# Altium schematic symbol library sim800L_Schlib.SchLib: 15 symbols
Pins are listed as number, name and electrical type; pins without a type are passive.

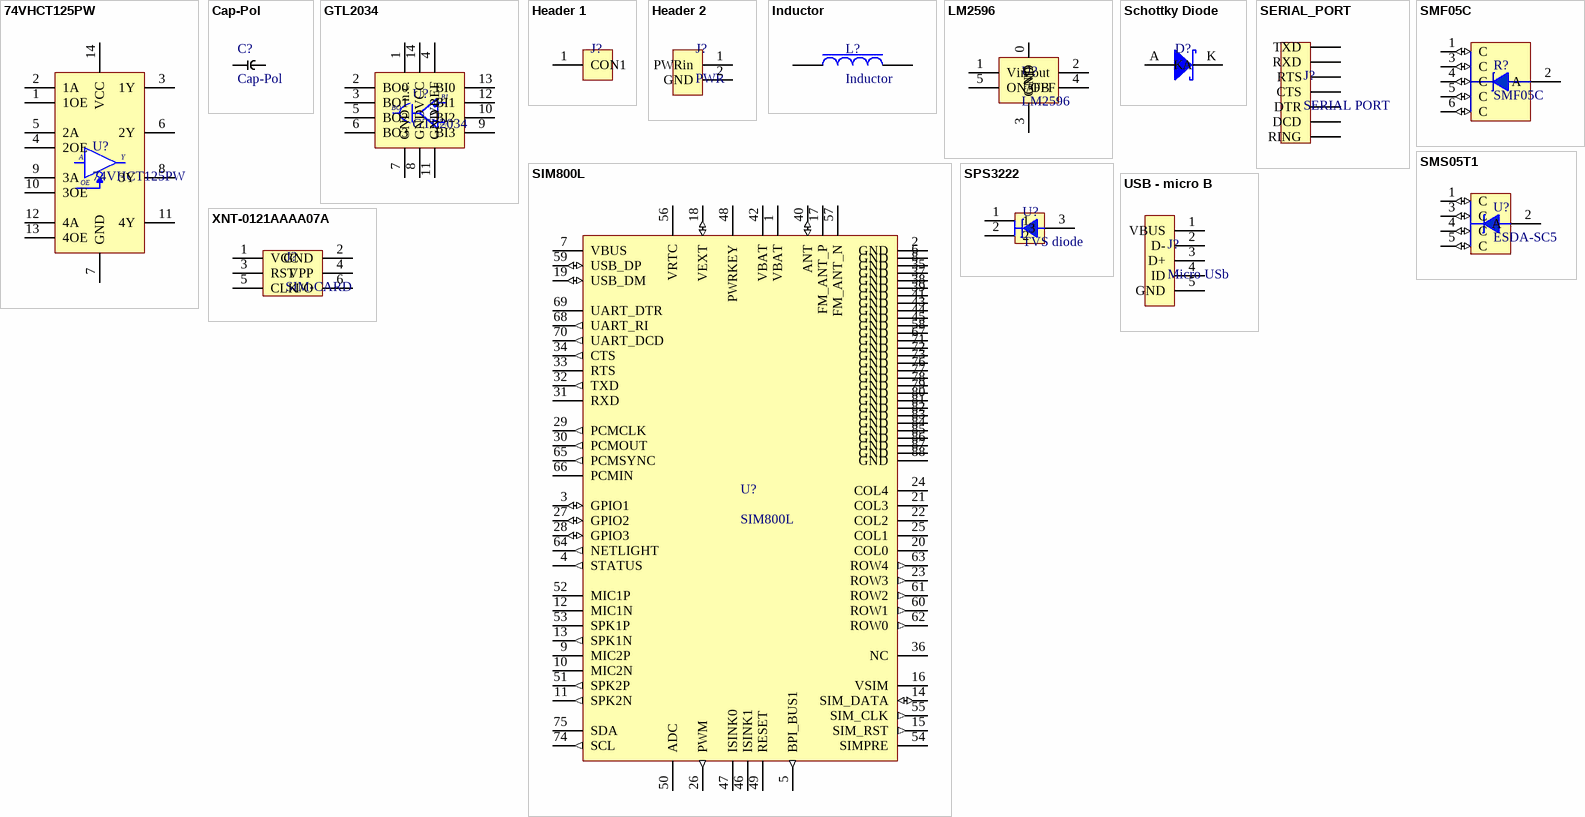
[diagram p0: symbols 74VHCT125PW to XNT-0121AAAA07A]

## 74VHCT125PW
designator U?
pins: 1 1OE, 2 1A, 3 1Y, 4 2OE, 5 2A, 6 2Y, 7 GND, 8 3Y, 9 3A, 10 3OE, 11 4Y, 12 4A, 13 4OE, 14 VCC
text: A; Y; OE

## Cap-Pol
designator C?
pins: A, K

## GTL2034
designator U?
footprint TSSOP14
pins: 1 n.c., 2 BO0, 3 BO1, 4 VREF, 5 BO2, 6 BO3, 7 GND, 8 GND, 9 BI3, 10 BI2, 11 GND, 12 BI1, 13 BI0, 14 VCC
text: BI; BO; Vref

## Header 1
designator J?, comment CON?  (value not drawn)
pins: 1 CON1

## Header 2
designator J?, comment PWR
pins: 1 PWRin (power), 2 GND

## Inductor
designator L?
pins: 1 *, 2 *

## LM2596
designator U?
pins: 0 GND, 1 Vin, 2 Vout, 3 GND, 4 FB, 5 ON/OFF

## Schottky Diode
designator D?  (value not drawn)
pins: A, K

## SERIAL_PORT
designator J?, comment SERIAL PORT
pins: 1 TXD, 2 RXD, 3 RTS, 4 CTS, 5 DTR, 6 DCD, 7 RING

## SIM800L
designator U?
footprint SIM800L-FOOTPRINT
pins: 1 VBAT, 2 GND, 3 GPIO1 (io), 4 STATUS (out), 5 BPI_BUS1 (out), 6 GND, 7 VBUS, 8 GND, 9 MIC2P, 10 MIC2N, 11 SPK2N (out), 12 MIC1N, 13 SPK1N (out), 14 SIM_DATA (io), 15 SIM_RST (out), 16 VSIM, 17 FM_ANT_P, 18 VEXT (io), 19 USB_DM (io), 20 COL0, 21 COL3, 22 COL2, 23 ROW3 (out), 24 COL4, 25 COL1, 26 PWM (out), 27 GPIO2 (io), 28 GPIO3 (io), 29 PCMCLK (out), 30 PCMOUT (out), 31 RXD, 32 TXD (out), 33 RTS, 34 CTS (out), 35 GND, 36 NC, 37 GND, 38 GND, 39 GND, 40 ANT (io), 41 GND, 42 VBAT, 43 GND, 44 GND, 45 GND, 46 ISINK1, 47 ISINK0, 48 PWRKEY, 49 RESET, 50 ADC, 51 SPK2P (out), 52 MIC1P, 53 SPK1P, 54 SIMPRE, 55 SIM_CLK (out), 56 VRTC, 57 FM_ANT_N, 58 GND, 59 USB_DP (io), 60 ROW1 (out), 61 ROW2 (out), 62 ROW0 (out), 63 ROW4 (out), 64 NETLIGHT (out), 65 PCMSYNC (out), 66 PCMIN, 67 GND, 68 UART_RI (out), 69 UART_DTR, 70 UART_DCD (out), 71 GND, 72 GND, 73 GND, 74 SCL (out), 75 SDA, 76 GND, 77 GND, 78 GND, 79 GND, 80 GND, 81 GND, 82 GND, 83 GND, 84 GND, 85 GND, 86 GND, 87 GND, 88 GND

## SMF05C
designator R?
pins: 1 C (io), 2 A, 3 C (io), 4 C (io), 5 C (io), 6 C (io)

## SMS05T1
designator U?, comment ESDA-SC5
pins: 1 C (io), 2 A, 3 C (io), 4 C (io), 5 C (io)

## SPS3222
designator U?, comment TVS diode
pins: 1, 2, 3

## USB - micro B
designator J?, comment Micro USb
pins: 1 VBUS, 2 D-, 3 D+, 4 ID, 5 GND

## XNT-0121AAAA07A
designator J?, comment SIM-CARD
6-PIN SIM HOLDER
pins: 1 VCC, 2 GND, 3 RST, 4 VPP, 5 CLK, 6 I/O